# Altium footprint library HT-5.08mm.PcbLib: 11 footprints
Each footprint in its own frame and in the unit in brackets; x right, y up, seen from the top. Pads: shape width x height; smd on the part's side, far side on the other; paste and mask are expansions set on the pad; w line width, h text height; cw(c..) or ccw(c..) is an arc to the next point about the centre after c.
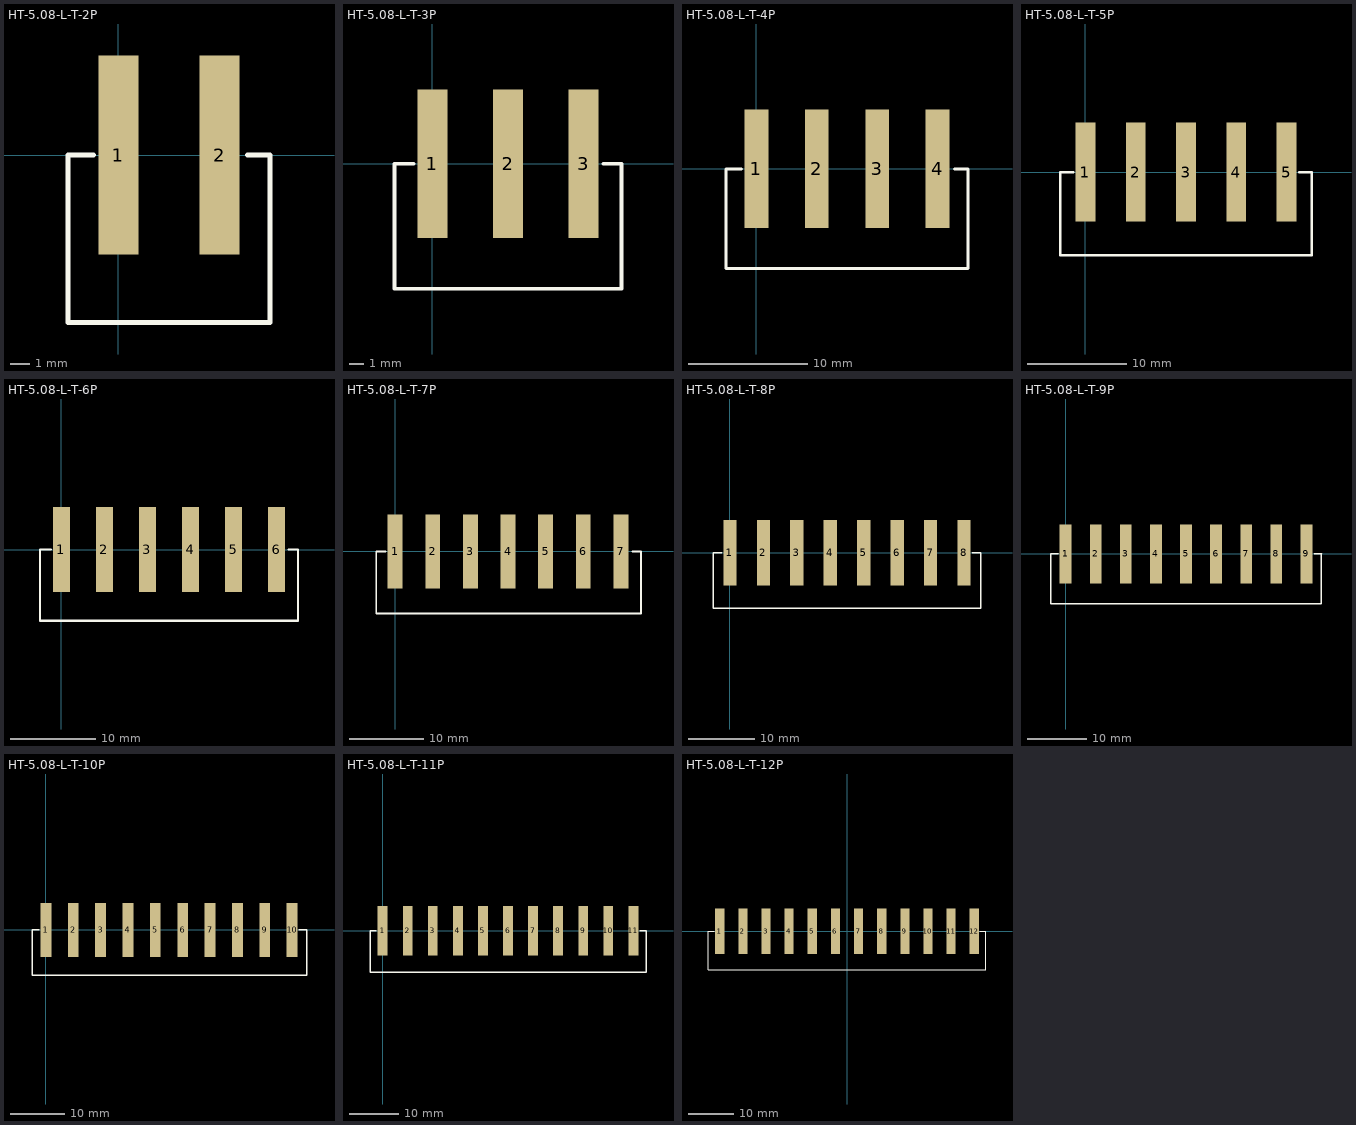
[diagram p0: the footprints below, top view; thin cyan lines are the x and y axes]

## HT-5.08-L-T-2P [mm] "间距5.08mm，弯针立式贴片 淘宝ID:黄晶宝石"
pads (2):
  rect 2x10 smd: 1(0,0) 2(5.08,0)
Top Overlay:
  lines w0.254: -1.26,0 -2.54,0 -2.54,-8.4 7.62,-8.4 7.62,0 ; 6.48,0 7.6,0
3D body: height 10.2, standoff 0, extent -2.48,-8.4 7.68,4

## HT-5.08-L-T-3P [mm] "间距5.08mm，弯针立式贴片 淘宝ID:黄晶宝石"
pads (3):
  rect 2x10 smd: 1(0,0) 2(5.08,0) 3(10.16,0)
Top Overlay:
  lines w0.254: -1.26,0 -2.54,0 -2.54,-8.4 12.7,-8.4 12.7,0 ; 11.48,0 12.6,0
3D body: height 10.2, standoff 0, extent -2.42,-8.4 12.82,4

## HT-5.08-L-T-4P [mm] "间距5.08mm，弯针立式贴片 淘宝ID:黄晶宝石"
pads (4):
  rect 2x10 smd: 1(0,0) 2(5.08,0) 3(10.16,0) 4(15.24,0)
Top Overlay:
  lines w0.254: -1.26,0 -2.54,0 -2.54,-8.4 17.78,-8.4 17.78,0 16.66,0
3D body: height 10.2, standoff 0, extent -2.56,-8.4 17.76,4

## HT-5.08-L-T-5P [mm] "间距5.08mm，弯针立式贴片 淘宝ID:黄晶宝石"
pads (5):
  rect 2x10 smd: 1(0,0) 2(5.08,0) 3(10.16,0) 4(15.24,0) 5(20.32,0)
Top Overlay:
  lines w0.254: -1.26,0 -2.54,0 -2.54,-8.4 22.86,-8.4 22.86,0 ; 21.6,0 22.74,0
3D body: height 10.2, standoff 0, extent -2.5,-8.4 22.9,4

## HT-5.08-L-T-6P [mm] "间距5.08mm，弯针立式贴片  淘宝ID:黄晶宝石"
pads (6):
  rect 2x10 smd: 1(0,0) 2(5.08,0) 3(10.16,0) 4(15.24,0) 5(20.32,0) 6(25.4,0)
Top Overlay:
  lines w0.254: -1.26,0 -2.54,0 -2.54,-8.4 27.94,-8.4 27.94,0 26.8,0
3D body: height 10.2, standoff 0, extent -2.44,-8.6 28.04,3.8

## HT-5.08-L-T-7P [mm] "间距5.08mm，弯针立式贴片    淘宝ID:黄晶宝石"
pads (7):
  rect 2x10 smd: 1(0,0) 2(5.08,0) 3(10.16,0) 4(15.24,0) 5(20.32,0) 6(25.4,0) 7(30.48,0)
Top Overlay:
  lines w0.254: -1.26,0 -2.54,0 -2.54,-8.4 33.2,-8.4 33.2,0 32,0
3D body: height 10.2, standoff 0, extent -2.58,-8.4 32.98,4

## HT-5.08-L-T-8P [mm] "间距5.08mm，弯针立式贴片    淘宝ID:黄晶宝石"
pads (8):
  rect 2x10 smd: 1(0,0) 2(5.08,0) 3(10.16,0) 4(15.24,0) 5(20.32,0) 6(25.4,0) 7(30.48,0) 8(35.56,0)
Top Overlay:
  lines w0.254: -1.26,0 -2.54,0 -2.54,-8.4 38.1,-8.4 38.1,0 ; 36.8,0 38,0
3D body: height 10.2, standoff 0, extent -2.52,-8.2 38.12,4.2

## HT-5.08-L-T-9P [mm] "间距5.08mm，弯针立式贴片     淘宝ID:黄晶宝石"
pads (9):
  rect 2x10 smd: 1(0,0) 2(5.08,0) 3(10.16,0) 4(15.24,0) 5(20.32,0) 6(25.4,0) 7(30.48,0) 8(35.56,0) 9(40.64,0)
Top Overlay:
  lines w0.254: -1.26,0 -2.54,0 -2.54,-8.4 43.18,-8.4 43.18,0 ; 42,0 43.2,0
3D body: height 10.2, standoff 0, extent -2.46,-8.6 43.26,3.8

## HT-5.08-L-T-10P [mm] "间距5.08mm，弯针立式贴片      淘宝ID:黄晶宝石"
pads (10):
  rect 2x10 smd: 1(0,0) 2(5.08,0) 3(10.16,0) 4(15.24,0) 5(20.32,0) 6(25.4,0) 7(30.48,0) 8(35.56,0) 9(40.64,0) 10(45.72,0)
Top Overlay:
  lines w0.254: -1.26,0 -2.54,0 -2.54,-8.4 48.4,-8.4 48.4,0 47,0
3D body: height 10.2, standoff 0, extent -2.4,-8.4 48.4,4

## HT-5.08-L-T-11P [mm] "间距5.08mm，弯针立式贴片   淘宝ID:黄晶宝石"
pads (11):
  rect 2x10 smd: 1(0,0) 2(5.08,0) 3(10.16,0) 4(15.24,0) 5(20.32,0) 6(25.4,0) 7(30.48,0) 8(35.56,0) 9(40.64,0) 10(45.72,0) 11(50.8,0)
Top Overlay:
  lines w0.254: -1.26,0 -2.54,0 -2.54,-8.4 53.4,-8.4 53.4,0 52.14,0
3D body: height 10.2, standoff 0, extent -2.54,-8.2 53.34,4.2

## HT-5.08-L-T-12P [mm] "间距5.08mm，弯针立式贴片 淘宝ID:黄晶宝石"
pads (12):
  rect 2x10 smd: 1(-27.94,0) 2(-22.86,0) 3(-17.78,0) 4(-12.7,0) 5(-7.62,0) 6(-2.54,0) 7(2.54,0) 8(7.62,0) 9(12.7,0) 10(17.78,0) 11(22.86,0) 12(27.94,0)
Top Overlay:
  lines w0.254: -29.2,0 -30.48,0 -30.48,-8.4 30.48,-8.4 30.48,0 29.2,0
3D body: height 10.2, standoff 0, extent -30.48,-8.4 30.48,4